# EAGLE library part AD8244 (library AD8244)
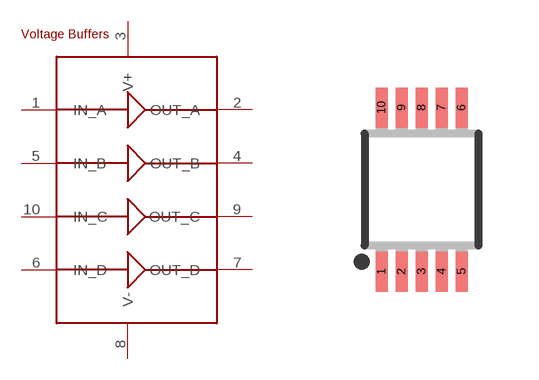
[diagram p0: symbol with the pads of MSOP10; footprint MSOP10]

Designator prefix U

## AD8244  [MSOP10]
1  IN_A
2  OUT_A
3  V+
4  OUT_B
5  IN_B
6  IN_D
7  OUT_D
8  V-
9  OUT_C
10  IN_C

## Footprint MSOP10 (pad centres in mm)
10 Lead Platic MSOP Source: http://www.linear.com .. LT1996
smd 0.3 x 1: 1 -1,-2.05; 2 -0.5,-2.05; 3 0,-2.05; 4 0.5,-2.05; 5 1,-2.05; 6 1,2.05; 7 0.5,2.05; 8 0,2.05; 9 -0.5,2.05; 10 -1,2.05